# Altium schematic symbol library Integrated_Circuit.SchLib: 146 symbols (part 3 of 3)
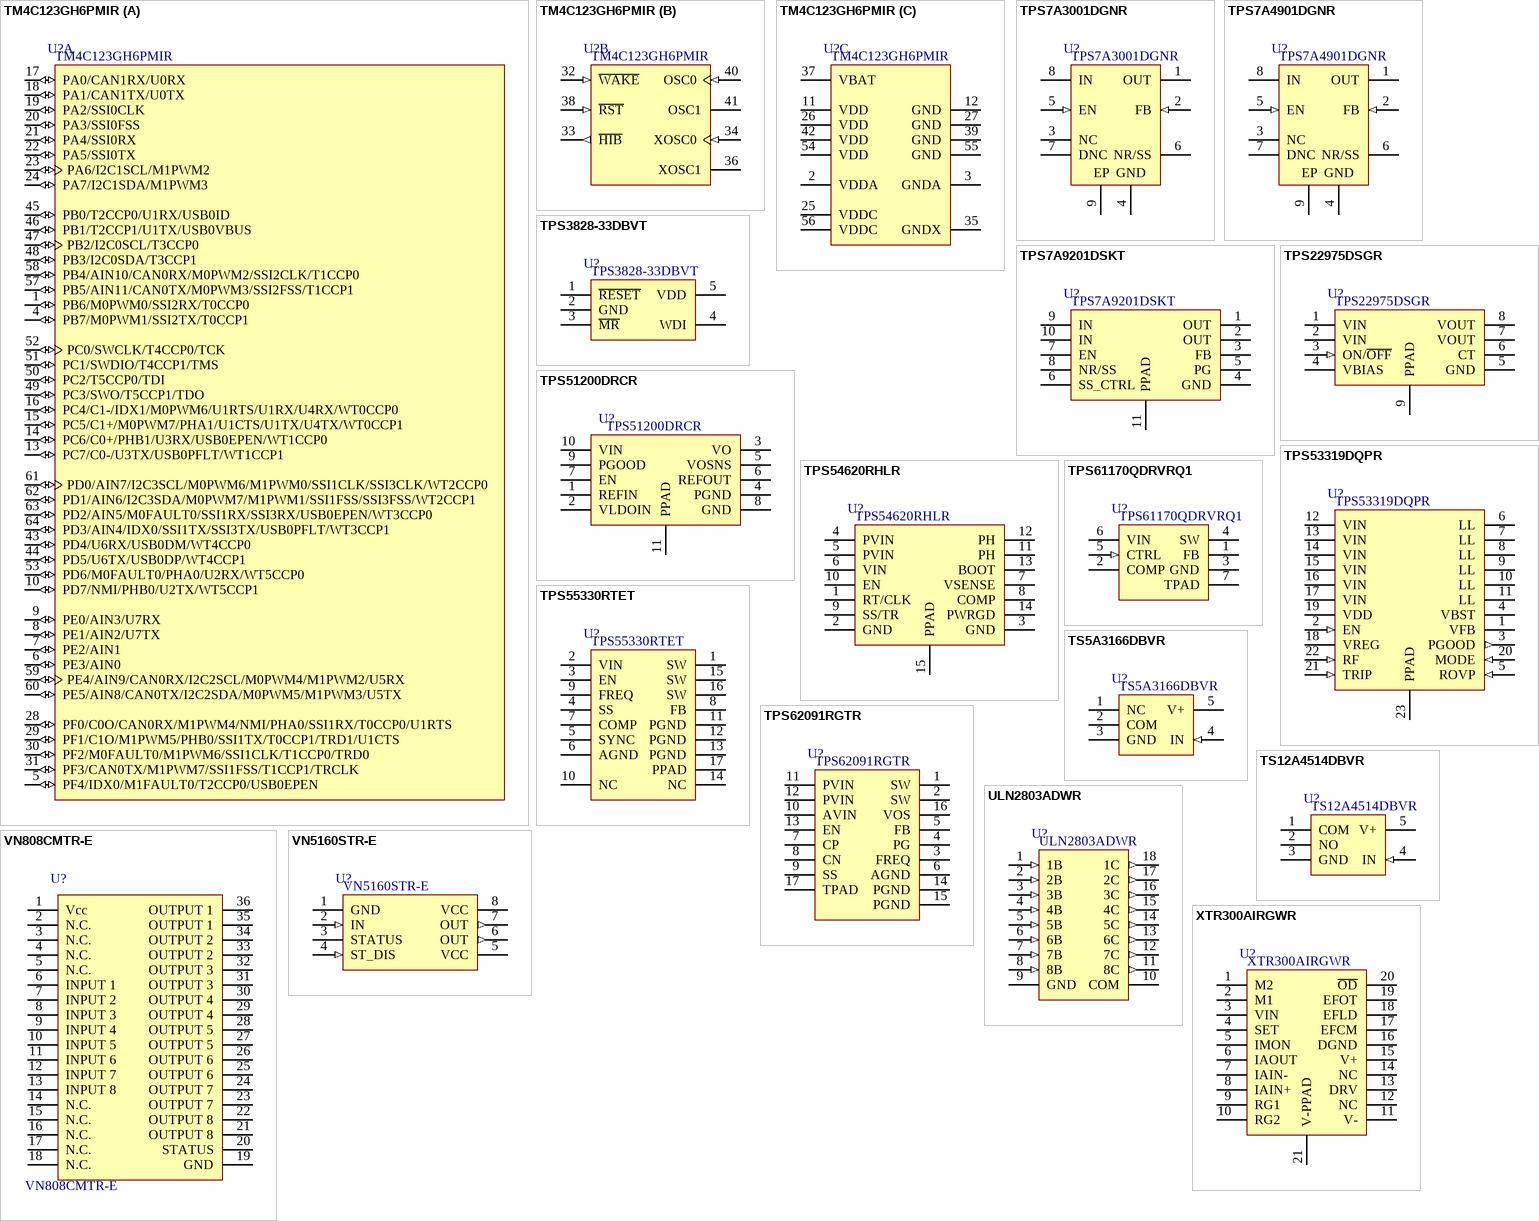
[diagram p11: symbols TM4C123GH6PMIR to XTR300AIRGWR]

## TM4C123GH6PMIR
designator U?
IC MCU 32BIT 256KB FLASH 64LQFP; Manufacturer: Texas Instruments; Category: Microcontroller; Mount Type: SMD; Supplier 1: Newark; Supplier Part Number 1: 74W0757; Supplier 2: Digi-Key; Supplier Part Number 2: 296-46360-1-ND; Supplier 3: Avnet; Supplier Part Number 3: TM4C123GH6PMIR; Value: TM4C123GH6PMIR
footprint LQFP-64
part A pins: 1 PB6/M0PWM0/SSI2RX/T0CCP0 (io), 4 PB7/M0PWM1/SSI2TX/T0CCP1 (io), 5 PF4/IDX0/M1FAULT0/T2CCP0/USB0EPEN (io), 6 PE3/AIN0 (io), 7 PE2/AIN1 (io), 8 PE1/AIN2/U7TX (io), 9 PE0/AIN3/U7RX (io), 10 PD7/NMI/PHB0/U2TX/WT5CCP1 (io), 13 PC7/C0-/U3TX/USB0PFLT/WT1CCP1 (io), 14 PC6/C0+/PHB1/U3RX/USB0EPEN/WT1CCP0 (io), 15 PC5/C1+/M0PWM7/PHA1/U1CTS/U1TX/U4TX/WT0CCP1 (io), 16 PC4/C1-/IDX1/M0PWM6/U1RTS/U1RX/U4RX/WT0CCP0 (io), 17 PA0/CAN1RX/U0RX (io), 18 PA1/CAN1TX/U0TX (io), 19 PA2/SSI0CLK (io), 20 PA3/SSI0FSS (io), 21 PA4/SSI0RX (io), 22 PA5/SSI0TX (io), 23 PA6/I2C1SCL/M1PWM2 (io), 24 PA7/I2C1SDA/M1PWM3 (io), 28 PF0/C0O/CAN0RX/M1PWM4/NMI/PHA0/SSI1RX/T0CCP0/U1RTS (io), 29 PF1/C1O/M1PWM5/PHB0/SSI1TX/T0CCP1/TRD1/U1CTS (io), 30 PF2/M0FAULT0/M1PWM6/SSI1CLK/T1CCP0/TRD0 (io), 31 PF3/CAN0TX/M1PWM7/SSI1FSS/T1CCP1/TRCLK (io), 43 PD4/U6RX/USB0DM/WT4CCP0 (io), 44 PD5/U6TX/USB0DP/WT4CCP1 (io), 45 PB0/T2CCP0/U1RX/USB0ID (io), 46 PB1/T2CCP1/U1TX/USB0VBUS (io), 47 PB2/I2C0SCL/T3CCP0 (io), 48 PB3/I2C0SDA/T3CCP1 (io), 49 PC3/SWO/T5CCP1/TDO (io), 50 PC2/T5CCP0/TDI (io), 51 PC1/SWDIO/T4CCP1/TMS (io), 52 PC0/SWCLK/T4CCP0/TCK (io), 53 PD6/M0FAULT0/PHA0/U2RX/WT5CCP0 (io), 57 PB5/AIN11/CAN0TX/M0PWM3/SSI2FSS/T1CCP1 (io), 58 PB4/AIN10/CAN0RX/M0PWM2/SSI2CLK/T1CCP0 (io), 59 PE4/AIN9/CAN0RX/I2C2SCL/M0PWM4/M1PWM2/U5RX (io), 60 PE5/AIN8/CAN0TX/I2C2SDA/M0PWM5/M1PWM3/U5TX (io), 61 PD0/AIN7/I2C3SCL/M0PWM6/M1PWM0/SSI1CLK/SSI3CLK/WT2CCP0 (io), 62 PD1/AIN6/I2C3SDA/M0PWM7/M1PWM1/SSI1FSS/SSI3FSS/WT2CCP1 (io), 63 PD2/AIN5/M0FAULT0/SSI1RX/SSI3RX/USB0EPEN/WT3CCP0 (io), 64 PD3/AIN4/IDX0/SSI1TX/SSI3TX/USB0PFLT/WT3CCP1 (io)
part B pins: 32 ~{WAKE} (in) "An external input that brings the processor out of Hibernate mode when asserted.", 33 ~{HIB} (out) "An output that indicates the processor is in Hibernate mode.", 34 XOSC0 (in) "Hibernation module oscillator crystal input or an external clock reference input. Note that this is either a 32.768-kHz crystal or a 32.768-kHz oscillator for the Hibernation module RTC.", 36 XOSC1 "Hibernation module oscillator crystal output. Leave unconnected when using a single-ended clock source.", 38 ~{RST} (in) "System reset input.", 40 OSC0 (in) "Main oscillator crystal input or an external clock reference input.", 41 OSC1 "Main oscillator crystal output. Leave unconnected when using a single-ended clock source."
part C pins: 2 VDDA (power) "The positive supply for the analog circuits (ADC, Analog Comparators, etc.). These are separated from VDD to minimize the electrical noise contained on VDD from affecting the analog functions. VDDA pins must be supplied with a voltage that meets the specification in Table 24-5 on page 1361, regardless of system implementation.", 3 GNDA (power) "The ground reference for the analog circuits (ADC, Analog Comparators, etc.). These are separated from GND to minimize the electrical noise contained on VDD from affecting the analog functions.", 11 VDD (power) "Positive supply for I/O and some logic.", 12 GND (power) "Ground reference for logic and I/O pins.", 25 VDDC (power) "Positive supply for most of the logic function, including the processor core and most peripherals. The voltage on this pin is 1.2 V and is supplied by the on-chip LDO. The VDDC pins should only be connected to each other and an external capacitor as specified in Table 24-12 on page 1374 .", 26 VDD (power) "Positive supply for I/O and some logic.", 27 GND (power) "Ground reference for logic and I/O pins.", 35 GNDX (power) "GND for the Hibernation oscillator. When using a crystal clock source, this pin should be connected to digital ground along with the crystal load capacitors. When using an external oscillator, this pin should be connected to digital ground.", 37 VBAT (power) "Power source for the Hibernation module. It is normally connected to the positive terminal of a battery and serves as the battery backup/Hibernation module power-source supply.", 39 GND (power) "Ground reference for logic and I/O pins.", 42 VDD (power) "Positive supply for I/O and some logic.", 54 VDD (power) "Positive supply for I/O and some logic.", 55 GND (power) "Ground reference for logic and I/O pins.", 56 VDDC (power) "Positive supply for most of the logic function, including the processor core and most peripherals. The voltage on this pin is 1.2 V and is supplied by the on-chip LDO. The VDDC pins should only be connected to each other and an external capacitor as specified in Table 24-12 on page 1374 ."

## TPS7A3001DGNR
designator U?
IC REG LIN POS ADJ 150MA 8MSOP; Manufacturer: Texas Instruments; Mount Type: SMD; Category: Regulator; Supplier 1: Farnell; Supplier Part Number 1: 2542795; Supplier 2: Digi-Key; Supplier Part Number 2: 296-27750-1-ND; Supplier 3: Newark; Supplier Part Number 3: 01T0878; Supplier 4: Avnet; Supplier Part Number 4: TPS7A3001DGNR/BKN; Supplier 5: Mouser; Supplier Part Number 5: Anonymous Daily Limit Reached; Value: TPS7A3001DGNR
footprint MSOP-8 TPAD (with exposed pad)
pins: 1 OUT (power) "Regulator output. A capacitor >= 2.2uF must be tied from this pin to ground to assure stability.", 2 FB (in) "This pin is the input to the control-loop error amplifier. It is used to set the output voltage of the device", 3 NC "Not internally connected. This pin must either be left open or tied to GND.", 4 GND (power) "Ground", 5 EN (in), 6 NR/SS "Noise reduction pin. Connecting an external capacitor to this pin bypasses noise generated by the internal bandgap. This capacitor allows RMS noise to be reduced to very low levels and also controls the soft-start function.", 7 DNC "DO NOT CONNECT. Do not route this pin to any electrical net, not even GND or IN.", 8 IN (power) "Input supply", 9 EP (power) "Must either be left open or tied to GND. Solder to printed circuit board (PCB) plane to enhance thermal performance."

## TPS7A4901DGNR
designator U?
IC REG LIN POS ADJ 150MA 8MSOP; Manufacturer: Texas Instruments; Mount Type: SMD; Category: Regulator; Supplier 1: Digi-Key; Supplier Part Number 1: 296-27751-1-ND; Supplier 2: Avnet; Supplier Part Number 2: TPS7A4901DGNR/BKN; Supplier 3: Farnell; Supplier Part Number 3: 2542799; Supplier 4: Newark; Supplier Part Number 4: 01T0879; Value: TPS7A4901DGNR
footprint MSOP-8 TPAD (with exposed pad)
pins: 1 OUT (power) "Regulator output. A capacitor >= 2.2uF must be tied from this pin to ground to assure stability.", 2 FB (in) "This pin is the input to the control-loop error amplifier. It is used to set the output voltage of the device", 3 NC "Not internally connected. This pin must either be left open or tied to GND.", 4 GND (power) "Ground", 5 EN (in), 6 NR/SS "Noise reduction pin. Connecting an external capacitor to this pin bypasses noise generated by the internal bandgap. This capacitor allows RMS noise to be reduced to very low levels and also controls the soft-start function.", 7 DNC "DO NOT CONNECT. Do not route this pin to any electrical net, not even GND or IN.", 8 IN (power) "Input supply", 9 EP (power) "Must either be left open or tied to GND. Solder to printed circuit board (PCB) plane to enhance thermal performance."

## TPS7A9201DSKT
designator U?
IC REG LINEAR POS ADJ 2A 10SON; Manufacturer: Texas Instruments; Mount Type: SMD; Category: Regulator; Value: TPS7A9201DSKT
footprint WSON-10
pins: 1 OUT, 2 OUT, 3 FB, 4 GND, 5 PG, 6 SS_CTRL, 7 EN, 8 NR/SS, 9 IN, 10 IN, 11 PPAD
1 alternate drawing of the same symbol

## TPS3828-33DBVT
designator U?
IC SUPERVISOR 1 CHANNEL SOT23-5; Manufacturer: Texas Instruments; Mount Type: SMD; Category: Supervisor; Value: TPS3828-33DBVT
footprint SOT23-5
pins: 1 ~{RESET}, 2 GND (power), 3 ~{MR}, 4 WDI, 5 VDD
1 alternate drawing of the same symbol

## TPS22975DSGR
designator U?
IC PWR SWITCH N-CHAN 1:1 8WSON; Manufacturer: Texas Instruments; Mount Type: SMD; Category: Power Switch; Value: TPS22975DSGR
footprint WSON-8
pins: 1 VIN, 2 VIN, 3 ON/~{OFF} (in), 4 VBIAS, 5 GND, 6 CT, 7 VOUT, 8 VOUT, 9 PPAD
1 alternate drawing of the same symbol

## TPS51200DRCR
designator U?
IC REG CONV DDR 1OUT 10VSON; Manufacturer: Texas Instruments; Mount Type: SMD; Category: Regulator; Value: TPS51200DRCR
footprint VFDFN-10
pins: 1 REFIN, 2 VLDOIN, 3 VO, 4 PGND, 5 VOSNS, 6 REFOUT, 7 EN, 8 GND, 9 PGOOD, 10 VIN, 11 PPAD
1 alternate drawing of the same symbol

## TPS53319DQPR
designator U?
IC REG BUCK ADJUSTABLE 14A 22SON; Manufacturer: Texas Instruments; Mount Type: SMD; Category: Regulator; Value: TPS53319DQPR
footprint LFDFN-22
pins: 1 VFB, 2 EN (in), 3 PGOOD (out), 4 VBST, 5 ROVP (in), 6 LL, 7 LL, 8 LL, 9 LL, 10 LL, 11 LL, 12 VIN, 13 VIN, 14 VIN, 15 VIN, 16 VIN, 17 VIN, 18 VREG, 19 VDD, 20 MODE (in), 21 TRIP (in), 22 RF (in), 23 PPAD
1 alternate drawing of the same symbol

## TPS54620RHLR
designator U?
IC REG BUCK ADJUSTABLE 6A 14VQFN; Manufacturer: Texas Instruments; Mount Type: SMD; Category: Regulator; Value: TPS54620RHLR
footprint VFQFN-14
pins: 1 RT/CLK, 2 GND (power), 3 GND (power), 4 PVIN  (power), 5 PVIN  (power), 6 VIN (power), 7 VSENSE, 8 COMP, 9 SS/TR, 10 EN, 11 PH, 12 PH, 13 BOOT, 14 PWRGD, 15 PPAD
1 alternate drawing of the same symbol

## TPS55330RTET
designator U?
IC REG BST FLYBK SEPIC 16WQFN; Manufacturer: Texas Instruments; Category: Regulator; Mount Type: SMD; Supplier 1: Digi-Key; Supplier 2: Mouser; Supplier 3: Farnell; Supplier 4: Newark; Supplier Part Number 1: 296-36219-1-ND; Supplier Part Number 2: 595-TPS55330RTET; Supplier Part Number 3: 2347002; Supplier Part Number 4: 06X1033; Value: TPS55330RTET
footprint QFN-16 0.5 Pitch (QFN, 16 Pin, 0,5mm Pitch)
pins: 1 SW, 2 VIN (power), 3 EN, 4 SS, 5 SYNC, 6 AGND (power), 7 COMP, 8 FB, 9 FREQ, 10 NC, 11 PGND (power), 12 PGND (power), 13 PGND (power), 14 NC, 15 SW, 16 SW, 17 PPAD

## TPS61170QDRVRQ1
designator U?
IC REG MULT CONFG ADJ 0.96A 6SON; Manufacturer: Texas Instruments; Mount Type: SMD; Category: Regulator; Supplier 1: Mouser; Supplier Part Number 1: 595-TPS61170QDRVRQ1; Supplier 2: Newark; Supplier Part Number 2: 71T7158; Supplier 3: Farnell; Supplier Part Number 3: 2064220; Supplier 4: Digi-Key; Supplier Part Number 4: 296-29763-1-ND; Value: TPS61170QDRVRQ1
footprint PWSON-N6
pins: 1 FB, 2 COMP, 3 GND (power), 4 SW, 5 CTRL (in), 6 VIN (power), 7 TPAD (power)

## TPS62091RGTR
designator U?
IC REG BUCK 3.3V 3A SYNC 16QFN; Manufacturer: Texas Instruments; Mount Type: SMD; Category: Regulator; Supplier 1: Avnet; Supplier Part Number 1: TPS62091RGTR/BKN; Supplier 2: Mouser; Supplier Part Number 2: 595-TPS62091RGTR; Supplier 3: Arrow; Supplier Part Number 3: TPS62091RGTR; Supplier 4: Digi-Key; Supplier Part Number 4: 296-46388-1-ND; Supplier 5: Newark; Supplier Part Number 5: 94T1868; Value: TPS62091RGTR
footprint QFN-16 0.5 Pitch (QFN, 16 Pin, 0,5mm Pitch)
pins: 1 SW, 2 SW, 3 FREQ, 4 PG, 5 FB, 6 AGND, 7 CP, 8 CN, 9 SS, 10 AVIN, 11 PVIN, 12 PVIN, 13 EN, 14 PGND, 15 PGND, 16 VOS, 17 TPAD

## TS5A3166DBVR
designator U?
IC SWITCH SPST SOT23-5; Manufacturer: Texas Instruments; Category: Switch; Mount Type: SMD; Supplier 1: Newark; Supplier 2: Mouser; Supplier 3: Farnell; Supplier 4: Digi-Key; Supplier Part Number 1: 08K5004; Supplier Part Number 2: 595-TS5A3166DBVR; Supplier Part Number 3: 1755409; Supplier Part Number 4: 296-17740-1-ND; Value: TS5A3166DBVR
footprint SOT23-5
pins: 1 NC, 2 COM, 3 GND (power), 4 IN (in), 5 V+

## TS12A4514DBVR
designator U?
IC SWITCH SPST SOT23-5; Manufacturer: Texas Instruments; Category: Switch; Mount Type: SMD; Supplier 1: Newark; Supplier 2: Mouser; Supplier 3: Digi-Key; Supplier Part Number 1: 52P6819; Supplier Part Number 2: 595-TS12A4514DBVR; Supplier Part Number 3: 296-24201-1-ND; Value: TS12A4514DBVR
footprint SOT23-5
pins: 1 COM, 2 NO, 3 GND (power), 4 IN (in), 5 V+

## ULN2803ADWR
designator U?
TRANS 8NPN DARL 50V 0.5A 18SO; Manufacturer: Texas Instruments; Mount Type: SMD; Category: Driver; Supplier 1: Farnell; Supplier Part Number 1: 1652419; Supplier 2: Digi-Key; Supplier Part Number 2: 296-15777-1-ND; Supplier 3: Newark; Supplier Part Number 3: 87H4769; Supplier 4: Avnet; Supplier Part Number 4: ULN2803ADWR/BKN; Value: ULN2803ADWR
footprint SOIC-18
pins: 1 1B (in), 2 2B (in), 3 3B (in), 4 4B (in), 5 5B (in), 6 6B (in), 7 7B (in), 8 8B (in), 9 GND (power), 10 COM (power), 11 8C (out), 12 7C (out), 13 6C (out), 14 5C (out), 15 4C (out), 16 3C (out), 17 2C (out), 18 1C (out)

## VN808CMTR-E
designator U?
IC DRIVER OCTAL HISIDE 36PWRSOIC; Manufacturer: STMicroelectronics; Mount Type: SMD; Category: PMIC - Power Distribution Switches, Load Drivers; Supplier 1: Digikey; Supplier Part Number 1: 497-8285-1-ND; Supplier 2: Arrow; Supplier Part Number 2: VN808CMTR-E**MULT1; Supplier 3: Mouser; Supplier Part Number 3: 511-VN808CMTR-E; Supplier 4: Avnet; Supplier Part Number 4: VN808CMTR-E; Supplier 5: Newark; Supplier Part Number 5: 57P5389; Supplier 6: Mouser; Supplier Part Number 6: Anonymous Daily Limit Reached; Supplier 7: Digi-Key; Supplier Part Number 7: 497-8285-1-ND; Supplier 8: Digi-Key; Supplier Part Number 8: 497-8285-6-ND; Supplier 9: Farnell; Supplier Part Number 9: 2311329; Value: VN808CMTR-E
footprint PowerSO-36
pins: 1 Vcc, 2 N.C., 3 N.C., 4 N.C., 5 N.C., 6 INPUT 1, 7 INPUT 2, 8 INPUT 3, 9 INPUT 4, 10 INPUT 5, 11 INPUT 6, 12 INPUT 7, 13 INPUT 8, 14 N.C., 15 N.C., 16 N.C., 17 N.C., 18 N.C., 19 GND, 20 STATUS, 21 OUTPUT 8, 22 OUTPUT 8, 23 OUTPUT 7, 24 OUTPUT 7, 25 OUTPUT 6, 26 OUTPUT 6, 27 OUTPUT 5, 28 OUTPUT 5, 29 OUTPUT 4, 30 OUTPUT 4, 31 OUTPUT 3, 32 OUTPUT 3, 33 OUTPUT 2, 34 OUTPUT 2, 35 OUTPUT 1, 36 OUTPUT 1

## VN5160STR-E
designator U?
IC DVR HIGHSIDE AUTO 8-SOIC; Manufacturer: STMicroelectronics; Mount Type: SMD; Category: Power Switch; Supplier 1: Arrow; Supplier 2: Farnell; Supplier 3: Digi-Key; Supplier Part Number 1: qJAUSOd8eRnH8dy0SblkkgEJgocfvSmV89SZTccSnu0; Supplier Part Number 2: 1739390; Supplier Part Number 3: 497-11467-1-ND; Value: VN5160STR-E
footprint SOIC-8 (SOIC, 8 Pin, Pitch 1,27mm)
pins: 1 GND (power), 2 IN (in), 3 STATUS (oc), 4 ST_DIS (in), 5 VCC (power), 6 OUT (out), 7 OUT (out), 8 VCC (power)

## XTR300AIRGWR
designator U?
IC ANLG CURR/VOLT OUT DVR 20VQFN; Manufacturer: Texas Instruments; Mount Type: SMD; Category: Interface; Supplier 1: Newark; Supplier Part Number 1: 33AC5738; Supplier 2: Digi-Key; Supplier Part Number 2: 296-46269-1-ND; Supplier 3: Farnell; Supplier Part Number 3: 2782936; Value: XTR300AIRGWR
footprint VQFN-20 (20-Pin Plastic Quad Flat No-Lead 0.65 mm Pitch)
pins: 1 M2, 2 M1, 3 VIN, 4 SET, 5 IMON, 6 IAOUT, 7 IAIN-, 8 IAIN+, 9 RG1, 10 RG2, 11 V-, 12 NC, 13 DRV, 14 NC, 15 V+, 16 DGND, 17 EFCM, 18 EFLD, 19 EFOT, 20 ~{OD}, 21 V-PPAD